# Altium footprint library BrauV2_Discrete_SMD.PcbLib: 20 footprints (part 1 of 2)
Each footprint in its own frame and in the unit in brackets; x right, y up, seen from the top. Pads: shape width x height; smd on the part's side, far side on the other; paste and mask are expansions set on the pad; w line width, h text height; cw(c..) or ccw(c..) is an arc to the next point about the centre after c.
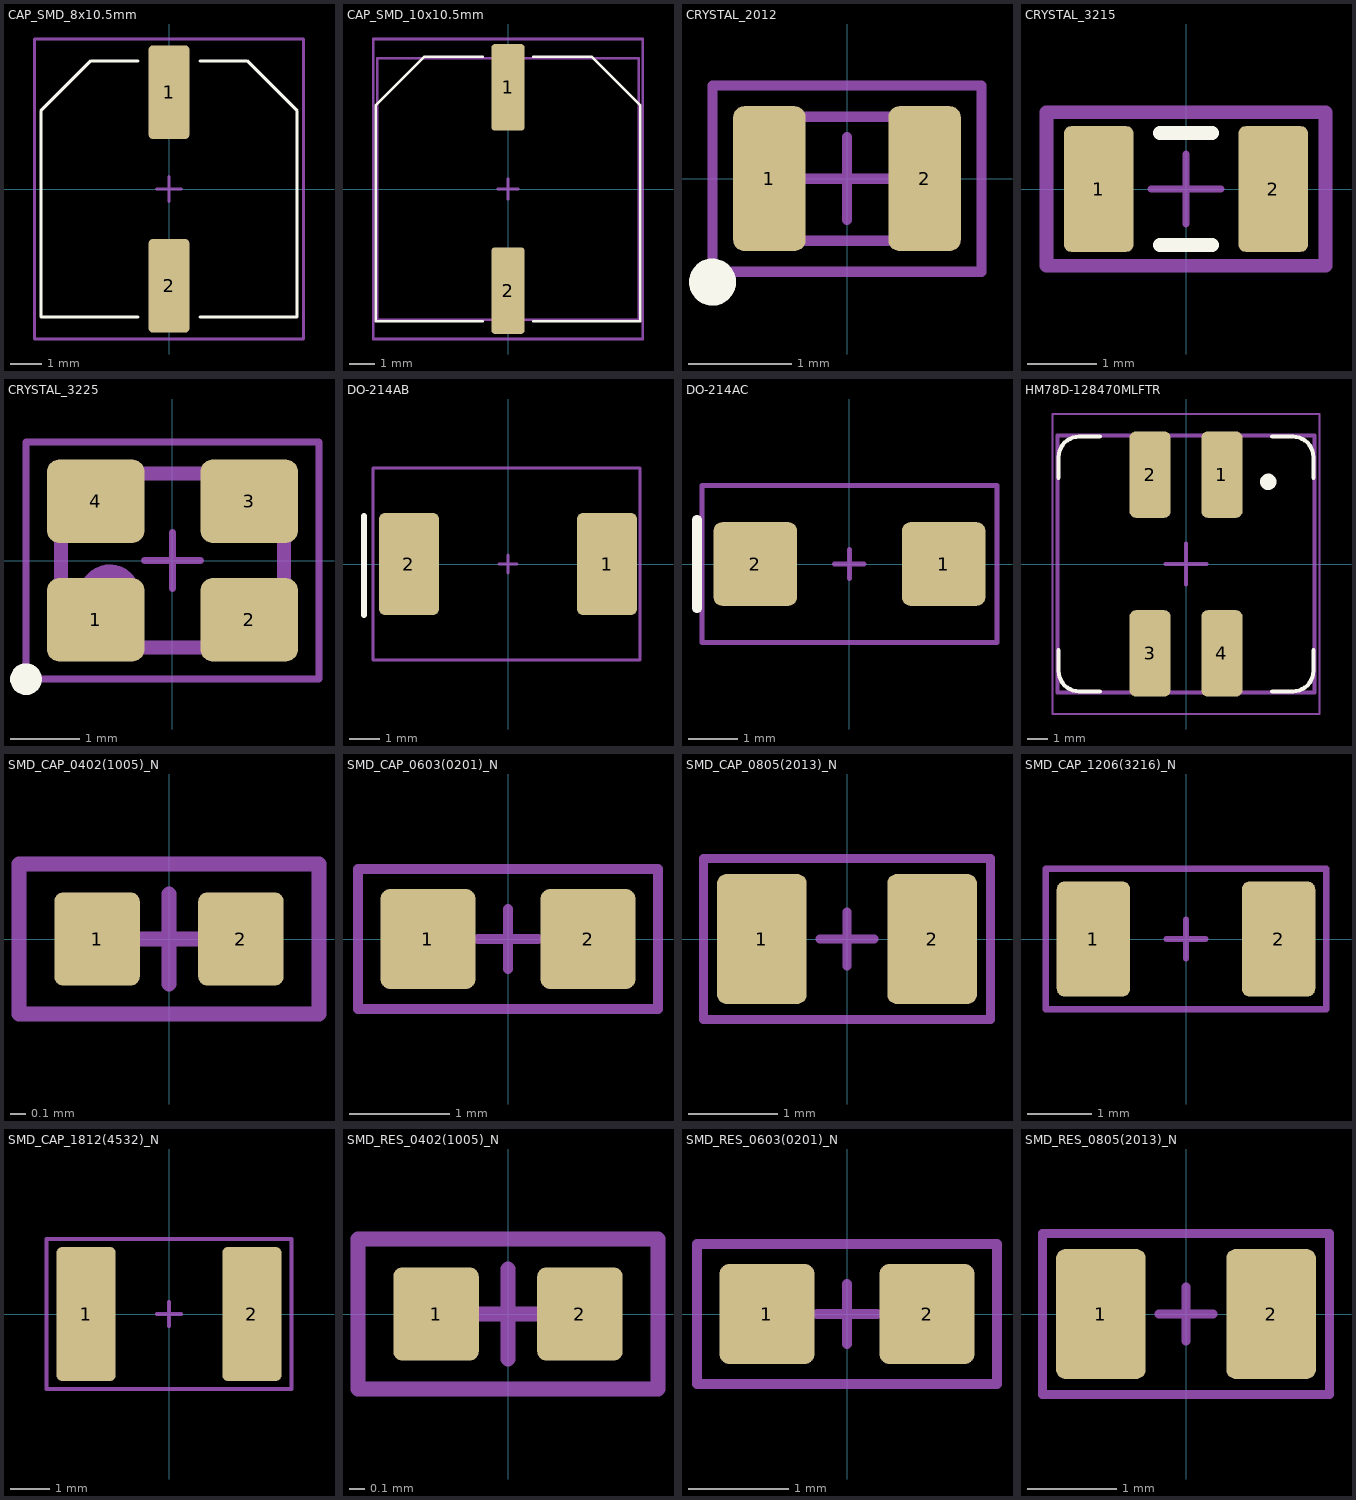
[diagram p0: the footprints below, top view; thin cyan lines are the x and y axes]

## CAP_SMD_8x10.5mm [mm] "SMD,8x10.5mm Aluminum Electrolytic Capacitor"
pads (2):
  rrect20% 1.3x3 smd: 1(0,3.1) 2(0,-3.1)
Top Overlay:
  lines w0.1: -1,-4.1 -4.1,-4.1 -4.1,2.5 -2.5,4.1 -1,4.1 ; 1,-4.1 4.1,-4.1 4.1,2.5 2.5,4.1 1,4.1
Top Courtyard (Mech15):
  lines w0.1: -0.4,0 0.4,0 ; 0,-0.4 0,0.4 ; -4.3,-4.8 -4.3,4.8 4.3,4.8 4.3,-4.8 -4.3,-4.8
3D body: height 1, standoff 0, extent -4,-4 4,4
3D body: height 10.5, standoff 0, extent -4,-3.997 4,3.997

## CAP_SMD_10x10.5mm [mm] "SMD,10x10.5mm Aluminum Electrolytic Capacitor"
pads (2):
  rrect20% 1.3x3.4 smd: 1(0,4) 2(0,-4)
Top Overlay:
  lines w0.1: -1,-5.2 -5.2,-5.2 -5.2,3.3 -3.3,5.2 -1,5.2 ; 1,-5.2 5.2,-5.2 5.2,3.3 3.3,5.2 1,5.2
Top Assembly:
  lines w0.1: -5.15,-5.15 5.15,-5.15 5.15,5.15 -5.15,5.15 -5.15,-5.15
Top Courtyard (Mech15):
  lines w0.1: -0.4,0 0.4,0 ; 0,-0.4 0,0.4 ; -5.3,-5.9 5.3,-5.9 5.3,5.9 -5.3,5.9 -5.3,-5.9
3D body: height 10.5, standoff 0, extent -5,-5 5,5
3D body: height 1, standoff 0, extent -5.1,-5.15 5.1,5.15

## CRYSTAL_2012 [mm]
pads (2):
  rrect30% 0.7x1.4 smd: 1(-0.75,0) 2(0.75,0)
Top Overlay:
  circle w0.254: c-1.3,-1 r0.1
Top Assembly:
  lines w0.1: -0.8,-0.4 -0.8,0.4 ; -1,-0.6 1,-0.6 1,0.6 -1,0.6 -1,-0.6
Top Courtyard (Mech15):
  lines w0.1: -0.4,0 0.4,0 ; 0,-0.4 0,0.4 ; -1.3,-0.9 -1.3,0.9 1.3,0.9 1.3,-0.9 -1.3,-0.9
3D body: height 0.6, standoff 0, extent -1,-0.6 1,0.6

## CRYSTAL_3215 [mm]
pads (2):
  rrect20% 1x1.8 smd: 1(-1.25,0) 2(1.25,0)
Top Overlay:
  lines w0.2: -0.375,-0.8 0.375,-0.8 ; -0.375,0.8 0.375,0.8
Top Courtyard (Mech15):
  lines w0.1: -0.5,0 0.5,0 ; 0,-0.5 0,0.5
  lines w0.2: -2,-1.1 2,-1.1 2,1.1 -2,1.1 -2,-1.1
3D body "Crys_TXC_9HT10-32_768KBZY-T_eec.STEP": height 0.85, standoff 0, extent -1.6,-0.75 1.6,0.75

## CRYSTAL_3225 [mm]
pads (4):
  rrect30% 1.4x1.2 smd: 1(-1.1,-0.85) 2(1.1,-0.85) 3(1.1,0.85) 4(-1.1,0.85)
Top Overlay:
  circle w0.254: c-2.1,-1.7 r0.1
Top Assembly:
  circle w0.254: c-0.9,-0.5 r0.316
  lines w0.2: -1.6,-1.25 1.6,-1.25 1.6,1.25 -1.6,1.25 -1.6,-1.25
Top Courtyard (Mech15):
  lines w0.1: -0.4,0 0.4,0 ; 0,-0.4 0,0.4 ; -2.1,-1.7 -2.1,1.7 2.1,1.7 2.1,-1.7 -2.1,-1.7
3D body: height 0.85, standoff 0, extent -1.6,-1.25 1.6,1.25

## DO-214AB [mm]
pads (2):
  rrect20% 2x3.4 smd: 1(3.3,0) 2(-3.3,0)
Top Overlay:
  lines w0.2: -4.8,-1.7 -4.8,1.6
Top Courtyard (Mech15):
  lines w0.1: -0.3,0 0.3,0 ; 0,-0.3 0,0.3 ; -4.5,-3.2 -4.5,3.2 4.4,3.2 4.4,-3.2 -4.5,-3.2
3D body "DO-214AB.STEP": height 2.89, standoff -0.04, extent -4.075,-3.1 3.975,3.15

## DO-214AC [mm]
pads (2):
  rrect20% 1.7x1.7 smd: 1(1.915,0) 2(-1.915,0)
Top Overlay:
  lines w0.2: -3.1,-0.9 -3.1,0.9
Top Courtyard (Mech15):
  lines w0.1: -0.3,0 0.3,0 ; 0,-0.3 0,0.3 ; -3,-1.6 -3,1.6 3,1.6 3,-1.6 -3,-1.6
3D body "Diode SMA.stp": height 2.41, standoff 0, extent -2.64,-1.46 2.64,1.46

## HM78D-128470MLFTR [mm]
pads (4):
  rrect30% 2x4.2 smd: 1(1.75,4.35) 2(-1.75,4.35) 3(-1.75,-4.35) 4(1.75,-4.35)
Top Overlay:
  circle w0.4: c4,4 r0.2
  lines w0.2: -6.2,-4.2 -6.2,-5.2 ccw(c-5.2,-5.2) -5.2,-6.2 -4.2,-6.2 ; -6.2,4.2 -6.2,5.2 cw(c-5.2,5.2) -5.2,6.2 -4.2,6.2 ; 4.2,-6.2 5.2,-6.2 ccw(c5.2,-5.2) 6.2,-5.2 6.2,-4.2 ; 4.2,6.2 5.2,6.2 cw(c5.2,5.2) 6.2,5.2 6.2,4.2
Top Assembly:
  lines w0.2: -6.25,-6.25 -6.25,6.25 6.25,6.25 6.25,-6.25 -6.25,-6.25
Top Courtyard (Mech15):
  lines w0.1: -6.5,-7.3 6.5,-7.3 6.5,7.3 -6.5,7.3 -6.5,-7.3
  lines w0.2: -1,0 1,0 ; 0,-1 0,1
3D body: height 10.5, standoff 0, extent -6.25,-6.25 6.25,6.25

## SMD_CAP_0402(1005)_N [mm]
pads (2):
  rrect20% 0.57x0.62 smd: 1(-0.48,0) 2(0.48,0)
Top Courtyard (Mech15):
  lines w0.1: -0.3,0 0.3,0 ; 0,-0.3 0,0.3 ; -1,-0.5 -1,0.5 1,0.5 1,-0.5 -1,-0.5
3D body "105(0402)-0500T.x_t": height 0.5, standoff 0, extent -0.5,-0.25 0.5,0.25

## SMD_CAP_0603(0201)_N [mm]
pads (2):
  rrect20% 0.95x1 smd: 1(-0.8,0) 2(0.8,0)
Top Courtyard (Mech15):
  lines w0.1: -0.3,0 0.3,0 ; 0,-0.3 0,0.3 ; -1.5,-0.7 -1.5,0.7 1.5,0.7 1.5,-0.7 -1.5,-0.7
3D body "107(0603)-0800T.x_t": height 0.8, standoff 0, extent -0.8,-0.4 0.8,0.4

## SMD_CAP_0805(2013)_N [mm]
pads (2):
  rrect20% 1x1.45 smd: 1(-0.95,0) 2(0.95,0)
Top Courtyard (Mech15):
  lines w0.1: -0.3,0 0.3,0 ; 0,-0.3 0,0.3 ; -1.6,-0.9 1.6,-0.9 1.6,0.9 -1.6,0.9 -1.6,-0.9
3D body "212(0805)-1250T.x_t": height 1.25, standoff 0, extent -1,-0.625 1,0.625

## SMD_CAP_1206(3216)_N [mm]
pads (2):
  rrect20% 1.15x1.8 smd: 1(-1.45,0) 2(1.45,0)
Top Courtyard (Mech15):
  lines w0.1: -0.3,0 0.3,0 ; 0,-0.3 0,0.3 ; -2.2,-1.1 -2.2,1.1 2.2,1.1 2.2,-1.1 -2.2,-1.1
3D body "316(1206)-1600T.x_t": height 1.6, standoff 0, extent -1.6,-0.8 1.6,0.8

## SMD_CAP_1812(4532)_N [mm]
pads (2):
  rrect20% 1.5x3.4 smd: 1(-2.1,0) 2(2.1,0)
Top Courtyard (Mech15):
  lines w0.1: -0.3,0 0.3,0 ; 0,-0.3 0,0.3 ; -3.1,-1.9 -3.1,1.9 3.1,1.9 3.1,-1.9 -3.1,-1.9
3D body "432(1812)-2500T.x_t": height 2.5, standoff 0, extent -2.25,-1.6 2.25,1.6

## SMD_RES_0402(1005)_N [mm]
pads (2):
  rrect20% 0.57x0.62 smd: 1(-0.48,0) 2(0.48,0)
Top Courtyard (Mech15):
  lines w0.1: -0.3,0 0.3,0 ; 0,-0.3 0,0.3 ; -1,-0.5 1,-0.5 1,0.5 -1,0.5 -1,-0.5
3D body "Resistor 0402.step": height 0.35, standoff 0, extent -0.75,-0.25 0.75,0.25

## SMD_RES_0603(0201)_N [mm]
pads (2):
  rrect20% 0.95x1 smd: 1(-0.8,0) 2(0.8,0)
Top Courtyard (Mech15):
  lines w0.1: -0.3,0 0.3,0 ; 0,-0.3 0,0.3 ; -1.5,-0.7 1.5,-0.7 1.5,0.7 -1.5,0.7 -1.5,-0.7
3D body "Resistor 0603.step": height 0.5, standoff 0, extent -1.05,-0.4 1.05,0.4

## SMD_RES_0805(2013)_N [mm]
pads (2):
  rrect20% 1x1.45 smd: 1(-0.95,0) 2(0.95,0)
Top Courtyard (Mech15):
  lines w0.1: -0.3,0 0.3,0 ; 0,-0.3 0,0.3 ; -1.6,-0.9 -1.6,0.9 1.6,0.9 1.6,-0.9 -1.6,-0.9
3D body "Resistor 0805.step": height 0.5, standoff 0, extent -1.261,-0.62 1.261,0.63